# EAGLE library part UCC284-5 (library fottes_vol_regs)
500mA low drop voltage regulator -5.0V negative rail
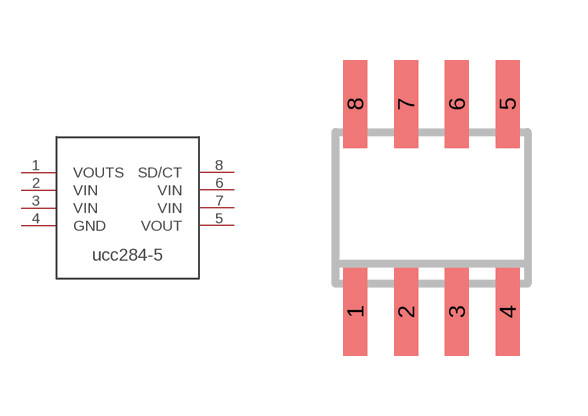
[diagram p1: symbol with the pads of SOIC8; footprint SOIC8]

Designator prefix -

## UCC284-5  [SOIC8]
1  VOUTS
2  VIN
3  VIN
4  GND
5  VOUT
6  VIN
7  VIN
8  SD/CT

## Footprint SOIC8 (pad centres in mm)
Small Outline IC
smd 0.6 x 2.2: 1 -1.905,-2.6; 2 -0.635,-2.6; 3 0.635,-2.6; 4 1.905,-2.6; 5 1.905,2.6; 6 0.635,2.6; 7 -0.635,2.6; 8 -1.905,2.6